# Altium schematic symbol library SnapEDAsch.SchLib: 1 symbol
Pins are listed as number, name and electrical type; pins without a type are passive.

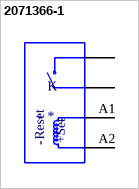
[diagram p0: symbol 2071366-1]

## 2071366-1
designator K
Power Relay, 12Vdc, 60A, Spst-No, Tht; MF: TE Connectivity; MP: EW60-1A3-BL12D04,00000; TE_purchase_URL: https://www.te.com/usa-en/product-2071366-1.html?te_bu=Cor&te_type=disp&te_campaign=seda_glo_cor-seda-global-disp-prtnr-fy19-seda-model-bom-cta_sma-317_1&elqCampaignId=32493; Value: *; SnapEDA_Link: https://www.snapeda.com/parts/EW60-1A3-BL12D04%2C00000/TE%20Connectivity%20Potter%20%26%20Brumfield%20Relays/view-part/2768886/?ref=snap; Digi-Key_Purchase_URL: https://www.digikey.com/product-detail/en/te-connectivity-potter-brumfield-relays/EW60-1A3-BL12D04,00000/PB2134-ND/6021839?utm_source=snapeda&utm_medium=aggregator&utm_campaign=symbol; Package: None; Digi-Key_Part_Number: PB2134-ND
footprint TE_2071366-1
pins: 1, 2 1, 3 1, 4 2, 5 2, 6 2, A1, A2
text: +; -; Reset; Set